# Altium footprint library PcbLib.PcbLib: 34 footprints (part 1 of 3)
Each footprint in its own frame and in the unit in brackets; x right, y up, seen from the top. Pads: shape width x height; smd on the part's side, far side on the other; paste and mask are expansions set on the pad; w line width, h text height; cw(c..) or ccw(c..) is an arc to the next point about the centre after c.
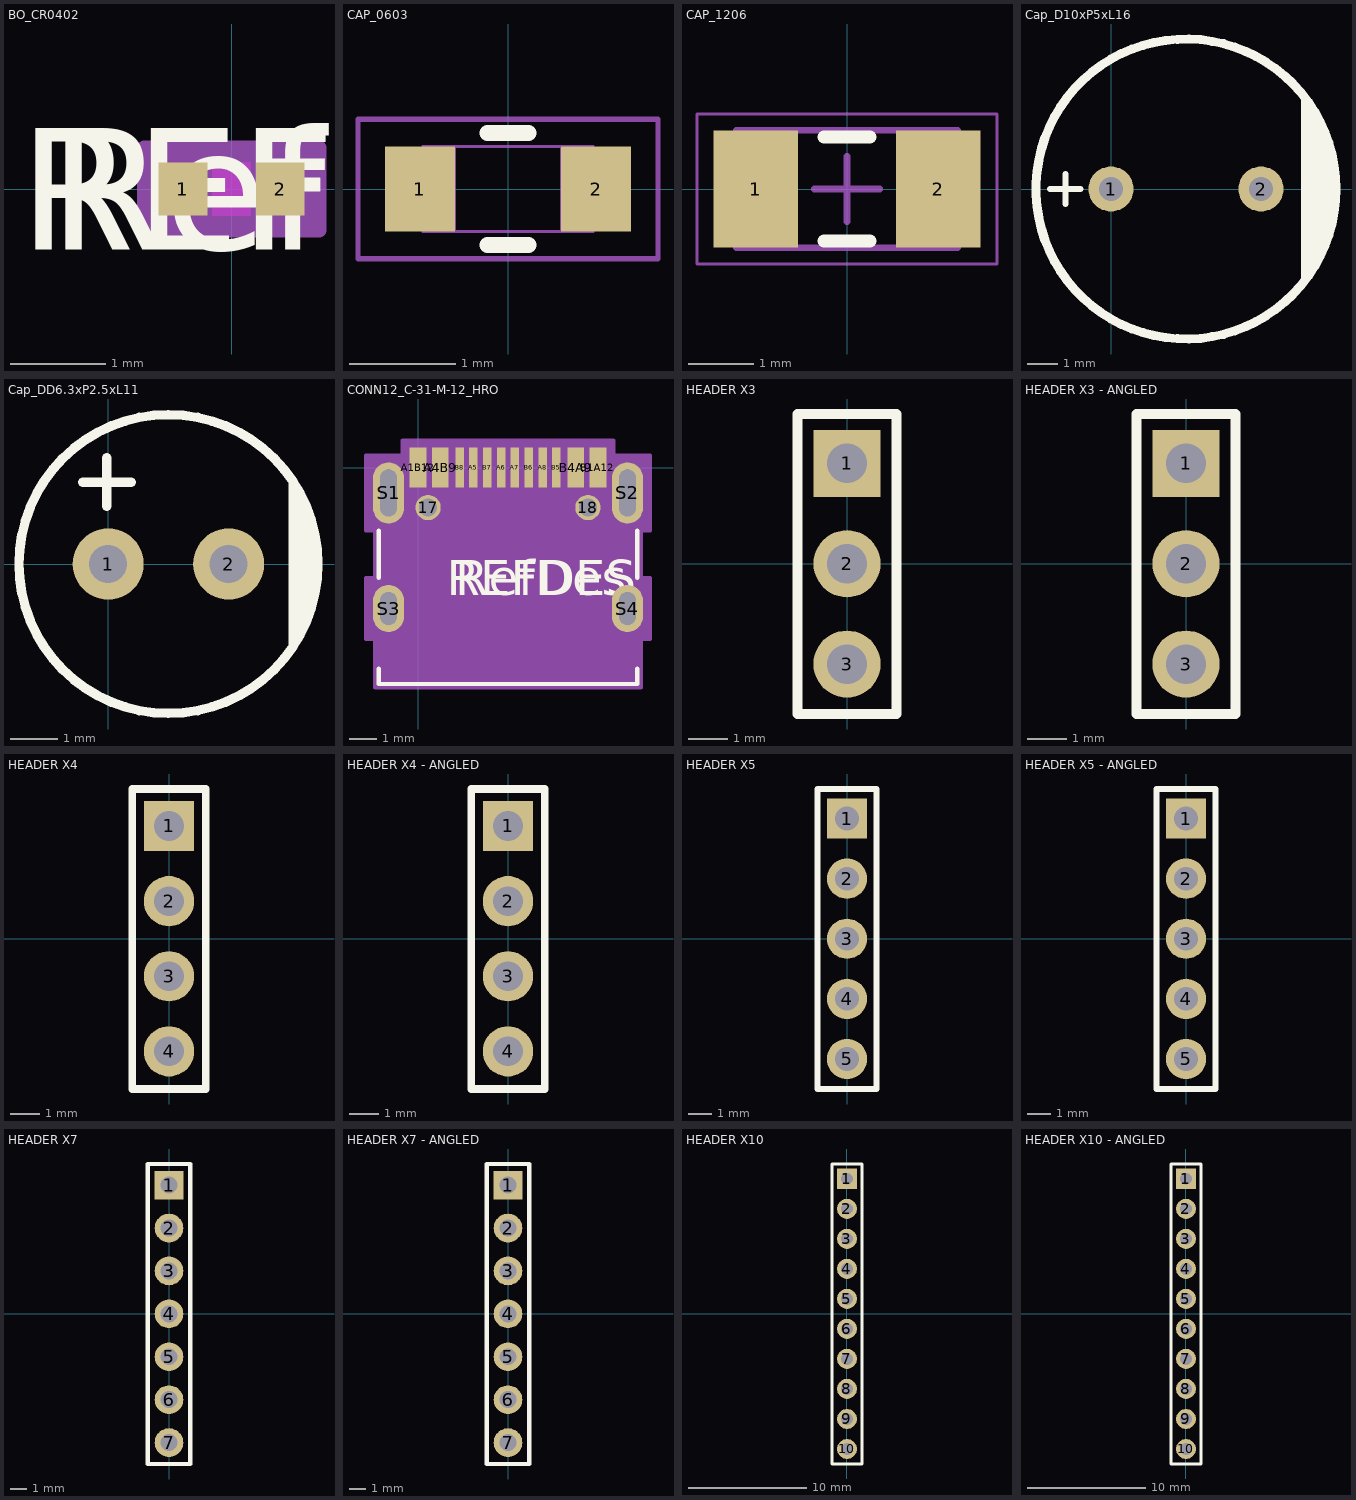
[diagram p0: the footprints below, top view; thin cyan lines are the x and y axes]

## BO_CR0402 [mil]
pads (2):
  rect 20x22 smd paste+0 mask+0: 1(-20,0) 2(20,0)
Top Layer keep-out:
  region: -8,-9 -8,9 8,9 8,-9
Top Overlay:
  text "RefDes" at -75,-25 h50
  text "REFDES" at -87.5,-25 h50
Keep-Out Layer:
  region: -8,-11 -8,11 8,11 8,-11
Mechanical 13:
  lines w1: -22,-11 -22,11 ; -22,-11 22,-11 ; -22,-11 -10,-11 -10,11 -22,11 ; -22,-11 -22,11 ; -22,11 22,11 ; 22,-11 22,11 ; 22,-11 22,11 ; 22,-11 10,-11 10,11 22,11
  text "RefDes2" at -87.5,-25 h50
Mechanical 15:
  region: 36,-17 -36,-17 -36,17 36,17
  lines w6: -36,-17 36,-17 36,17 -36,17 -36,-17
3D body "BO_CR0402.step": height 15.98, standoff 0, extent -22.01,-10.98 22.01,10.98

## CAP_0603 [mm]
pads (2):
  rect 0.656x0.8 smd paste+0 mask+0: 1(-0.828,0) 2(0.828,0)
Top Overlay:
  lines w0.152: -0.192,-0.527 0.192,-0.527 ; -0.192,0.527 0.192,0.527
Mechanical 13:
  lines w0.025: -0.8,-0.4 -0.8,0.4 ; -0.8,-0.4 -0.5,-0.4 -0.5,0.4 -0.8,0.4 ; -0.8,-0.4 0.8,-0.4 ; -0.8,-0.4 -0.8,0.4 ; -0.8,0.4 0.8,0.4 ; 0.8,-0.4 0.5,-0.4 0.5,0.4 0.8,0.4 ; 0.8,-0.4 0.8,0.4 ; 0.8,-0.4 0.8,0.4
Mechanical 15:
  lines w0.05: -1.41,-0.654 1.41,-0.654 1.41,0.654 -1.41,0.654 -1.41,-0.654
3D body "CAP_CL10_SAM.step": height 0.9, standoff 0, extent -0.8,-0.4 0.8,0.4

## CAP_1206 [mm]
pads (2):
  rect 1.3x1.8 smd: 1(-1.4,0) 2(1.4,0)
Top Overlay:
  lines w0.2: -0.35,-0.8 0.35,-0.8 ; -0.35,0.8 0.35,0.8
Mechanical 13:
  lines w0.1: -1.7,-0.9 -1.7,0.9 1.7,0.9 1.7,-0.9 -1.7,-0.9
Mechanical 15:
  lines w0.05: -2.3,-1.15 -2.3,1.15 2.3,1.15 2.3,-1.15 -2.3,-1.15
  lines w0.1: -0.5,0 0.5,0 ; 0,-0.5 0,0.5
3D body "CAPC3216X18N.step": height 1.8, standoff 0, extent -1.7,-0.9 1.7,0.9

## Cap_D10xP5xL16 [mm]
pads (2):
  round 1.5 hole 0.8: 1(0,0) 2(5,0)
Top Overlay:
  circle w0.3: c2.5,0 r5
  region: 6.35,3.387 6.35,-3.048 7.112,-2.286 7.112,-1.778 7.366,-1.524 7.366,-0.134 7.5,0 7.366,0.134 7.366,1.016
  lines w0.2: -2.032,0 -1.016,0 ; -1.524,-0.508 -1.524,0.508
3D body "SY 1000UF_16V 10X16MM--3DModel-STEP-510211.STEP": height 17.53, standoff -14.97, extent -2.485,-5 7.515,5

## Cap_DD6.3xP2.5xL11 [mm]
pads (2):
  round 1.5 hole 0.8: 1(0,0) 2(2.54,0)
Top Overlay:
  circle w0.2: c1.27,0 r3.15
  region: 3.81,1.905 3.81,-1.905 4.05,-1.665 4.05,-1.284 4.318,-1.016 4.318,-0.381 4.445,-0.254 4.42,-0.229 4.42,0.483 4.445,0.508
  lines w0.2: -0.533,1.727 0.483,1.727 ; -0.025,1.219 -0.025,2.235
3D body "10uF 50V electr 5 x11mm -P.diameter 2.5 mm-Blue-Black.stp": height 12, standoff -3.1, extent -1.23,-2.492 3.77,2.492

## CONN12_C-31-M-12_HRO [mil]
pads (18):
  round 36 / inner round 60 / far side round 36 hole 26 paste-99999 mask-18: 17(14.18,-56.93) 18(241.74,-56.93)
  rect 24x57 smd paste-28.5 mask-28.5: A1B12(0,0) A4B9(31.51,0) B1A12(255.92,0) B4A9(224.41,0)
  rect 12x57 smd paste-28.5 mask-28.5: A5(78.75,0) A6(118.12,0) A7(137.81,0) A8(177.18,0) B5(196.87,0) B6(157.5,0) B7(98.43,0) B8(59.06,0)
  oval 44x87 / inner round 60 / far side oval 44x87 hole 24 slot 67 at 90 deg paste-99999 mask+0: S1(-42.12,-36.06) S2(298.04,-36.06)
  oval 44x67 / inner round 60 / far side oval 44x67 hole 24 slot 47 at 90 deg paste-99999 mask+0: S3(-42.12,-200.63) S4(298.04,-200.63)
Top Overlay:
  lines w6: -56.04,-286.53 -56.04,-308 311.96,-308 311.96,-286.53 ; -56.04,-156.91 -56.04,-89.78 ; 311.96,-156.91 311.96,-89.78
  text "REFDES" at 40.46,-181.5 h50
  text "RefDes" at 52.96,-181.5 h50
Mechanical 13:
  lines w1: -51.04,-303 -51.04,-10 306.96,-10 306.96,-303 -51.04,-303
  text "RefDes2" at 40.46,-181.5 h50
Mechanical 15:
  region: 316.96,-89.56 330.04,-89.56 330.04,17.44 277.92,17.44 277.92,38.5 -22,38.5 -22,17.44 -74.12,17.44 -74.12,-89.56 -61.04,-89.56 -61.04,-157.13 -74.12,-157.13 -74.12,-244.13 -61.04,-244.13 -61.04,-313 316.96,-313 316.96,-244.13 330.04,-244.13 330.04,-157.13 316.96,-157.13
  lines w6: -74.12,-244.13 -61.04,-244.13 -61.04,-313 316.96,-313 316.96,-244.13 330.04,-244.13 330.04,-157.13 316.96,-157.13 316.96,-89.56 330.04,-89.56 330.04,17.44 277.92,17.44 277.92,38.5 -22,38.5 -22,17.44 -74.12,17.44 -74.12,-89.56 -61.04,-89.56 -61.04,-157.13 -74.12,-157.13 -74.12,-244.13
3D body "TYPE-C-31-M-12--3DModel-STEP-56544.STEP": height 130.31, standoff -38.98, extent -47.98,-303.22 303.98,8

## HEADER X3 [mm]
pads (3):
  rect 1.7x1.7 hole 1: 1(0,2.54)
  round 1.7 hole 1: 2(0,0) 3(0,-2.54)
Top Overlay:
  lines w0.254: -1.25,-3.805 -1.25,3.79 1.25,3.79 1.25,-3.805 -1.25,-3.805
3D body "3x1 Male Pin Header.STEP": height 10.55, standoff -2.99, extent -1.215,-3.752 1.33,3.748

## HEADER X3 - ANGLED [mm]
pads (3):
  rect 1.7x1.7 hole 1: 1(0,2.54)
  round 1.7 hole 1: 2(0,0) 3(0,-2.54)
Top Overlay:
  lines w0.254: -1.25,-3.805 -1.25,3.79 1.25,3.79 1.25,-3.805 -1.25,-3.805
3D body "3Pin90.step": height 4.35, standoff -2.95, extent -1.27,-3.81 7.18,3.81

## HEADER X4 [mm]
pads (4):
  rect 1.7x1.7 hole 1: 1(0,3.81)
  round 1.7 hole 1: 2(0,1.27) 3(0,-1.27) 4(0,-3.81)
Top Overlay:
  lines w0.254: -1.25,-5.08 -1.25,5.06 1.25,5.06 1.25,-5.08 -1.25,-5.08
3D body "1x4 Male Pin Header.STEP": height 10.55, standoff -2.99, extent -1.25,-5.08 1.25,5.085

## HEADER X4 - ANGLED [mm]
pads (4):
  rect 1.7x1.7 hole 1: 1(0,3.81)
  round 1.7 hole 1: 2(0,1.27) 3(0,-1.27) 4(0,-3.81)
Top Overlay:
  lines w0.254: -1.25,-5.08 -1.25,5.06 1.25,5.06 1.25,-5.08 -1.25,-5.08
3D body "4PinAngled.step": height 4.35, standoff -2.95, extent -1.27,-5.08 7.18,5.08

## HEADER X5 [mm]
pads (5):
  rect 1.7x1.7 hole 1: 1(0,5.08)
  round 1.7 hole 1: 2(0,2.54) 3(0,0) 4(0,-2.54) 5(0,-5.08)
Top Overlay:
  lines w0.254: -1.25,-6.35 1.25,-6.35 1.25,6.33 -1.25,6.33 -1.25,-6.35
3D body "1x5 Male Pin Header.STEP": height 10.55, standoff -2.99, extent -1.23,-6.352 1.27,6.353

## HEADER X5 - ANGLED [mm]
pads (5):
  rect 1.7x1.7 hole 1: 1(0,5.08)
  round 1.7 hole 1: 2(0,2.54) 3(0,0) 4(0,-2.54) 5(0,-5.08)
Top Overlay:
  lines w0.254: -1.25,-6.35 -1.25,6.33 1.25,6.33 1.25,-6.35 -1.25,-6.35
3D body "5PinAngled.step": height 4.35, standoff -2.95, extent -1.27,-6.35 7.18,6.35

## HEADER X7 [mm]
pads (7):
  rect 1.7x1.7 hole 1: 1(0,7.62)
  round 1.7 hole 1: 2(0,5.08) 3(0,2.54) 4(0,0) 5(0,-2.54) 6(0,-5.08) 7(0,-7.62)
Top Overlay:
  lines w0.254: -1.25,-8.89 -1.25,8.87 1.25,8.87 1.25,-8.89 -1.25,-8.89
3D body "7Pin.step": height 10.55, standoff -2.99, extent -1.27,-8.893 1.23,8.893

## HEADER X7 - ANGLED [mm]
pads (7):
  rect 1.7x1.7 hole 1: 1(0,7.62)
  round 1.7 hole 1: 2(0,5.08) 3(0,2.54) 4(0,0) 5(0,-2.54) 6(0,-5.08) 7(0,-7.62)
Top Overlay:
  lines w0.254: -1.25,-8.89 1.25,-8.89 1.25,8.87 -1.25,8.87 -1.25,-8.89
3D body "7PinAngled.step": height 4.35, standoff -2.95, extent -1.27,-8.89 7.18,8.89

## HEADER X10 [mm]
pads (10):
  rect 1.7x1.7 hole 1: 1(0,11.43)
  round 1.7 hole 1: 2(0,8.89) 3(0,6.35) 4(0,3.81) 5(0,1.27) 6(0,-1.27) 7(0,-3.81) 8(0,-6.35) 9(0,-8.89) 10(0,-11.43)
Top Overlay:
  lines w0.254: -1.25,-12.7 1.25,-12.7 1.25,12.68 -1.25,12.68 -1.25,-12.7
3D body "1x10 Male Pin Header.STEP": height 10.55, standoff -2.99, extent -1.25,-12.7 1.25,12.705

## HEADER X10 - ANGLED [mm]
pads (10):
  rect 1.7x1.7 hole 1: 1(0,11.43)
  round 1.7 hole 1: 2(0,8.89) 3(0,6.35) 4(0,3.81) 5(0,1.27) 6(0,-1.27) 7(0,-3.81) 8(0,-6.35) 9(0,-8.89) 10(0,-11.43)
Top Overlay:
  lines w0.254: -1.25,-12.7 -1.25,12.68 1.25,12.68 1.25,-12.7 -1.25,-12.7
3D body "10PinAngled.step": height 4.35, standoff -2.95, extent -1.27,-12.7 7.18,12.7